# Altium integrated library Project_Library.IntLib: 38 symbols
Pins are listed as number, name and electrical type; pins without a type are passive.

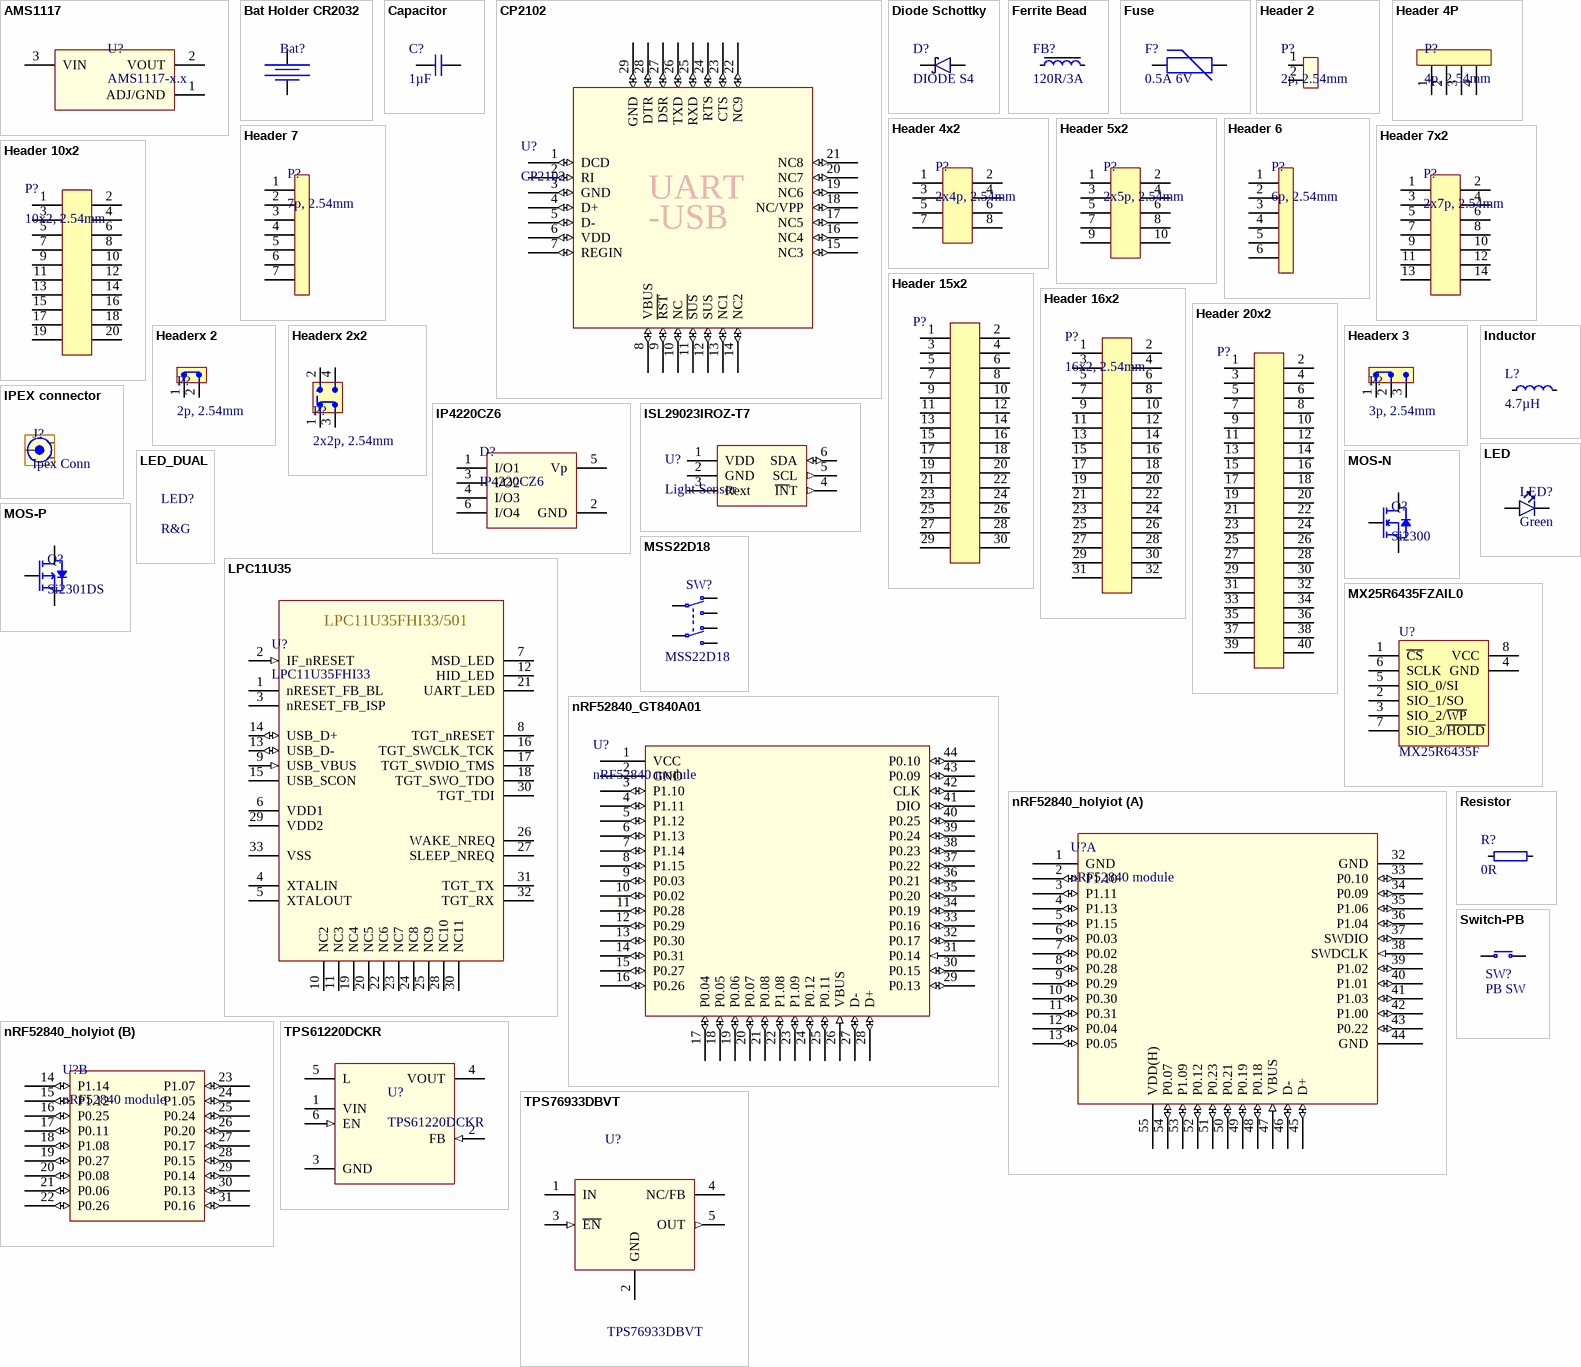
[diagram p0: symbols AMS1117 to TPS76933DBVT]

## AMS1117
designator U?, comment AMS1117-x.x
Advanced Monolithic Systems; Type: AMS1117-x.x
footprint SOT229P700X180-4N
pins: 1 ADJ/GND (power), 2 VOUT (power), 3 VIN (power)

## Bat Holder CR2032
designator Bat?  (value not drawn)
Bat Holder CR2032 SMD; Note: Bat Holder CR2032
footprint CR2032_HOLDER (BK-912 @ tme)
pins: 1, 2

## Capacitor
designator C?, comment 1µF
Genaral Schematic; Tolerance: ±5%; Value: 1µF; Suppiler: *; Link of Supplier: *; Manufacturer: *; Manufacturer Part Number: *; Footprint: 0402
footprint 0402 imperial (R, L, C)
footprint 0603_Imperial
footprint 0805_Imperial
footprint 1206_Imperial
footprint 1210_Imperial
pins: 1, 2

## CP2102
designator U?
Silicon Labs
footprint QFN28-CP2102 (Silicon Labs)
pins: 1 DCD (io), 2 RI (io), 3 GND (io), 4 D+ (io), 5 D- (io), 6 VDD (io), 7 REGIN (io), 8 VBUS (io), 9 ~{RST} (io), 10 NC (io), 11 ~{SUS} (io), 12 SUS (io), 13 NC1 (io), 14 NC2 (io), 15 NC3 (io), 16 NC4 (io), 17 NC5 (io), 18 NC/VPP (io), 19 NC6 (io), 20 NC7 (io), 21 NC8 (io), 22 NC9 (io), 23 CTS (io), 24 RTS (io), 25 RXD (io), 26 TXD (io), 27 DSR (io), 28 DTR (io), 29 GND (io)
text: UART; -USB

## Diode Schottky
designator D?, comment DIODE S4
Diode Schottky; Value: DIODE S4; Note: *
footprint SOD-123
pins: 1 C, 2 A

## Ferrite Bead
designator FB?, comment 120R/3A
General FB; Footprint: 0603; Value: 120R/3A
footprint 0402 imperial (R, L, C)
footprint 0603_Imperial
footprint 0805_Imperial
pins: 1, 2

## Fuse
designator F?, comment 0.5A 6V
Fuse Fuse Fuse; Value: 0.5A 6V
footprint 0805_Imperial
footprint 1206_Imperial
footprint 0603_Imperial
footprint 1210_Imperial
pins: 1, 2

## Header 2
designator P?, comment 2p, 2.54mm
General Schematic; Value: 2p, 2.54mm
footprint CONN2.54MM2P
pins: 1, 2

## Header 4P
designator P?, comment 4p, 2.54mm
General Schematic; Value: 4p, 2.54mm
footprint CONN2.54MM4P_RA_SMD
pins: 1, 2, 3, 4

## Header 4x2
designator P?, comment 2x4p, 2.54mm
General Schematic; Value: 2x4p, 2.54mm
footprint CONN2.54MM2X4
pins: 1, 2, 3, 4, 5, 6, 7, 8

## Header 5x2
designator P?, comment 2x5p, 2.54mm
General Schematic; Value: 2x5p, 2.54mm
footprint CONN2.54MM5X2
pins: 1, 2, 3, 4, 5, 6, 7, 8, 9, 10

## Header 6
designator P?, comment 6p, 2.54mm
General Schematic; Value: 6p, 2.54mm
footprint CONN2.54MM6P
pins: 1, 2, 3, 4, 5, 6

## Header 7
designator P?, comment 7p, 2.54mm
General Schematic; Value: 7p, 2.54mm
footprint CONN2.54MM7P
pins: 1, 2, 3, 4, 5, 6, 7

## Header 7x2
designator P?, comment 2x7p, 2.54mm
General Schematic; Value: 2x7p, 2.54mm
footprint CONN2.54MM7PX2
pins: 1, 2, 3, 4, 5, 6, 7, 8, 9, 10, 11, 12, 13, 14

## Header 10x2
designator P?, comment 10x2, 2.54mm
General Schematic; Value: 10x2, 2.54mm
footprint CONN2.54MM10X2
footprint CONN2.54MM2x10_SMD_RA_x
pins: 1, 2, 3, 4, 5, 6, 7, 8, 9, 10, 11, 12, 13, 14, 15, 16, 17, 18, 19, 20

## Header 15x2
designator P?  (value not drawn)
General Schematic; Value: *
footprint CONN2.54MM15x2_RA_SMD
footprint CONN1.27MM2x15_DIP
footprint CONN1.27MM2x15_FM_SMD
pins: 1, 2, 3, 4, 5, 6, 7, 8, 9, 10, 11, 12, 13, 14, 15, 16, 17, 18, 19, 20, 21, 22, 23, 24, 25, 26, 27, 28, 29, 30

## Header 16x2
designator P?, comment 16x2, 2.54mm
General Schematic; Value: 16x2, 2.54mm
footprint CONN2.54MM16X2
pins: 1, 2, 3, 4, 5, 6, 7, 8, 9, 10, 11, 12, 13, 14, 15, 16, 17, 18, 19, 20, 21, 22, 23, 24, 25, 26, 27, 28, 29, 30, 31, 32

## Header 20x2
designator P?  (value not drawn)
General Schematic; Value: *
footprint CONN1.27MM2x20_DIP
footprint CONN1.27MM2x20_FM_SMD
footprint CONN2.54MM20X2
pins: 1, 2, 3, 4, 5, 6, 7, 8, 9, 10, 11, 12, 13, 14, 15, 16, 17, 18, 19, 20, 21, 22, 23, 24, 25, 26, 27, 28, 29, 30, 31, 32, 33, 34, 35, 36, 37, 38, 39, 40

## Headerx 2
designator P?, comment 2p, 2.54mm
Value: 2p, 2.54mm
footprint CONN2.54MM2P
pins: 1, 2

## Headerx 2x2
designator P?, comment 2x2p, 2.54mm
Value: 2x2p, 2.54mm
footprint CONN2.54MM2X2
pins: 1, 2, 3, 4

## Headerx 3
designator P?, comment 3p, 2.54mm
Value: 3p, 2.54mm
footprint CONN2.54MM3P
pins: 1, 2, 3

## Inductor
designator L?, comment 4.7µH
General Schematic; Value: 4.7µH; Supplier: *; Link of Supplier: *; Maximum Current: *; Footprint: 0402
footprint 0402 imperial (R, L, C)
footprint 0603_Imperial
footprint 0805_Imperial
footprint CD43_SMD (Power Inductor)
pins: 1, 2

## IP4220CZ6
designator D?
Dual USB 2.0 integrated ESD protection; Value: IP4220CZ6
footprint SOT457(SC-74)
pins: 1 I/O1, 2 GND (power), 3 I/O2, 4 I/O3, 5 Vp (power), 6 I/O4

## IPEX connector
designator J?, comment Ipex Conn
Hirose; MP: U.FL-R-SMT_01_; Note: Ipex Conn; MF: Hirose
footprint HRS_U.FL-R-SMT(01)
pins: 1 GND, 2 GND, 3 SIG

## ISL29023IROZ-T7
designator U?, comment Light Sensor
Light Sensor, 2.1x2mm; Manufacturer: Intersil; Manufacturer Partnumber: ISL29023IROZ-T7; Footprint: DFN 6; Type Sensor: Light Sensor
footprint SON65P200X210X80-7N
pins: 1 VDD (power), 2 GND (power), 3 Rext, 4 ~{IN}T (out), 5 SCL (out), 6 SDA (io), 7 GND (power) hidden to GND

## LED
designator LED?, comment Green
General Schematic; Color: Green; Footprint: 0603
footprint LED_0603
footprint LED_0805
pins: 1 C, 2 A

## LED_DUAL
designator LED?, comment R&G
General Schematic; Color: R&G; Footprint: 0606
footprint LED_DUAL_0606

## LPC11U35
designator U?, comment LPC11U35FHI33
schematic for DAPlink
footprint LPC11U35FHI33
pins: 1 nRESET_FB_BL, 2 IF_nRESET (in), 3 nRESET_FB_ISP, 4 XTALIN, 5 XTALOUT, 6 VDD1 (power), 7 MSD_LED, 8 TGT_nRESET, 9 USB_VBUS (in), 10 NC2, 11 NC3, 12 HID_LED, 13 USB_D- (io), 14 USB_D+ (io), 15 USB_SCON, 16 TGT_SWCLK_TCK, 17 TGT_SWDIO_TMS, 18 TGT_SWO_TDO, 19 NC4, 20 NC5, 21 UART_LED, 22 NC6, 23 NC7, 24 NC8, 25 NC9, 26 WAKE_NREQ, 27 SLEEP_NREQ, 28 NC10, 29 VDD2 (power), 30 NC11, 30 TGT_TDI, 31 TGT_TX, 32 TGT_RX, 33 VSS (power)
text: LPC11U35FHI33/501

## MOS-N
designator Q?, comment Si2300
SOT-23 1-G 2-S 3-D
footprint SOT-23 (1-G 2-S 3-D)
pins: 1 G, 2 S, 3 D

## MOS-P
designator Q?, comment Si2301DS
SOT-23 1-G 2-S 3-D
footprint SOT-23 (1-G 2-S 3-D)
pins: 1 G, 2 S, 3 D

## MSS22D18
designator SW?
Slide Switch DPDT; Part Number: *; Manufacturer Part Number: *; Pin Count: 6; Value: MSS22D18; Note: *
footprint MSS22D18SMD
footprint MSS22D18DIP
pins: 1 N.O-1, 2 COM-1, 3 N.C-1, 4 N.O-2, 5 COM-2, 6 N.C-2

## MX25R6435FZAIL0
designator U?, comment MX25R6435F
Ultra low power, 64M-bit, serial multi I/O flash memory; Part Number: MX25R6435FZAIL0; Manufacturer: Macronix; Manufacturer Part Number: MX25R6435FZAIL0; Datasheet: http://www.macronix.com/Lists/Datasheet/Attachments/3881/MX25R6435F,%20Wide%20Range,%2064Mb,%20v1.3.pdf; Footprint Doc: USON-8; Pin Count: 8; Value: MX25R6435F; Note: *; Supplier part number: MX25R6435FZAIL0
footprint USON8L4X4X0.6
pins: 1 ~{CS}, 2 SIO_1/SO, 3 SIO_2/~{WP}, 4 GND, 5 SIO_0/SI, 6 SCLK, 7 SIO_3/~{HOLD}, 8 VCC, 9 GND hidden to GND

## nRF52840_GT840A01
designator U?, comment nRF52840 module
nRF52840 module GT840A_01
footprint nRF52840_GT840A01
pins: 1 VCC (power), 2 GND (power), 3 P1.10 (io), 4 P1.11 (io), 5 P1.12 (io), 6 P1.13 (io), 7 P1.14 (io), 8 P1.15 (io), 9 P0.03 (io), 10 P0.02 (io), 11 P0.28 (io), 12 P0.29 (io), 13 P0.30 (io), 14 P0.31 (io), 15 P0.27 (io), 16 P0.26 (io), 17 P0.04 (io), 18 P0.05 (io), 19 P0.06 (io), 20 P0.07 (io), 21 P0.08 (io), 22 P1.08 (io), 23 P1.09 (io), 24 P0.12 (io), 25 P0.11 (io), 26 VBUS (in), 27 D- (io), 28 D+ (io), 29 P0.13 (io), 30 P0.15 (io), 31 P0.14 (in), 32 P0.17 (io), 33 P0.16 (io), 34 P0.19 (io), 35 P0.20 (io), 36 P0.21 (io), 37 P0.22 (io), 38 P0.23 (io), 39 P0.24 (io), 40 P0.25 (io), 41 DIO (io), 42 CLK (io), 43 P0.09 (io), 44 P0.10 (io)

## nRF52840_holyiot
designator U?, comment nRF52840 module
nRF52840 holyiot module
footprint nRF52840_holyiot
part A pins: 1 GND (power), 2 P1.10 (io), 3 P1.11 (io), 4 P1.13 (io), 5 P1.15 (io), 6 P0.03 (io), 7 P0.02 (io), 8 P0.28 (io), 9 P0.29 (io), 10 P0.30 (io), 11 P0.31 (io), 12 P0.04 (io), 13 P0.05 (io), 32 GND (power), 33 P0.10 (io), 34 P0.09 (io), 35 P1.06 (io), 36 P1.04 (io), 37 SWDIO (io), 38 SWDCLK (in), 39 P1.02 (io), 40 P1.01 (io), 41 P1.03 (io), 42 P1.00 (io), 43 P0.22 (io), 44 GND (power), 45 D+ (io), 46 D- (io), 47 VBUS (in), 48 P0.18 (io), 49 P0.19 (io), 50 P0.21 (io), 51 P0.23 (io), 52 P0.12 (io), 53 P1.09 (io), 54 P0.07 (io), 55 VDD(H) (power)
part B pins: 14 P1.14 (io), 15 P1.12 (io), 16 P0.25 (io), 17 P0.11 (io), 18 P1.08 (io), 19 P0.27 (io), 20 P0.08 (io), 21 P0.06 (io), 22 P0.26 (io), 23 P1.07 (io), 24 P1.05 (io), 25 P0.24 (io), 26 P0.20 (io), 27 P0.17 (io), 28 P0.15 (io), 29 P0.14 (io), 30 P0.13 (io), 31 P0.16 (io)

## Resistor
designator R?, comment 0R
General Schematic; Tolerance: ±5%; Value: 0R; Supplier: *; Link of Supplier: *; Footprint: 0402
footprint 0402 imperial (R, L, C)
footprint 0603_Imperial
footprint 0805_Imperial
footprint 1206_Imperial
footprint 1210_Imperial
pins: 1, 2

## Switch-PB
designator SW?, comment PB SW
Push Button; Manufacturer: *; Manufacturer Part Number: *; Pin Count: 4; Value: PB SW; Note: *; Part Number: *
footprint Switch-PB-4.5x4.5mm-SMD (Tactile Switch, SPNO, SMD, 4.5x4.5x3.8mm)
pins: 1 N.O, 2 COM

## TPS61220DCKR
designator U?
Texas Instruments
footprint SOT65P210X110-6N (Texas Instruments)
pins: 1 VIN (power), 2 FB (in), 3 GND, 4 VOUT (power), 5 L, 6 EN (in)

## TPS76933DBVT
designator U?
10-V, 100-mA, Low Iq, Low-Dropout Linear egulator 5-SOT-23; MF: Texas Instruments; Availability: Good; SnapEDA_Link: https://www.snapeda.com/parts/TPS76933DBVT/Texas%20Instruments/view-part/?ref=snap; Price: 0.58 USD; Package: SOT-23-5 Texas Instruments; MP: TPS76933DBVT; Value: *
footprint SOT95P280X145-5N
pins: 1 IN (power), 2 GND, 3 ~{EN} (in), 4 NC/FB, 5 OUT (out)